# Altium integrated library AT90USB1286-AU.IntLib: 1 symbol
Pins are listed as number, name and electrical type; pins without a type are passive.

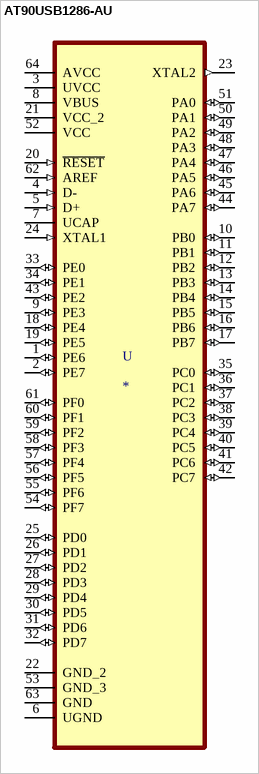
[diagram p0: symbol AT90USB1286-AU]

## AT90USB1286-AU
designator U
AVR AVRÂ® 90USB Microcontroller IC 8-Bit 16MHz 128KB _128K x 8_ FLASH 64-TQFP _14x14_; MF: Microchip; MP: AT90USB1286-AU; Value: *; Package: TQFP-64 Microchip; Price: None; Availability: Unavailable; SnapEDA_Link: https://www.snapeda.com/parts/AT90USB1286-AU/Microchip/view-part/598497/?ref=snap
footprint QFP80P1600X1600X120-64N
pins: 1 PE6 (io), 2 PE7 (io), 3 UVCC (power), 4 D- (in), 5 D+ (in), 6 UGND, 7 UCAP, 8 VBUS (power), 9 PE3 (io), 10 PB0 (io), 11 PB1 (io), 12 PB2 (io), 13 PB3 (io), 14 PB4 (io), 15 PB5 (io), 16 PB6 (io), 17 PB7 (io), 18 PE4 (io), 19 PE5 (io), 20 ~{RESET} (in), 21 VCC_2 (power), 22 GND_2, 23 XTAL2 (out), 24 XTAL1 (in), 25 PD0 (io), 26 PD1 (io), 27 PD2 (io), 28 PD3 (io), 29 PD4 (io), 30 PD5 (io), 31 PD6 (io), 32 PD7 (io), 33 PE0 (io), 34 PE1 (io), 35 PC0 (io), 36 PC1 (io), 37 PC2 (io), 38 PC3 (io), 39 PC4 (io), 40 PC5 (io), 41 PC6 (io), 42 PC7 (io), 43 PE2 (io), 44 PA7 (io), 45 PA6 (io), 46 PA5 (io), 47 PA4 (io), 48 PA3 (io), 49 PA2 (io), 50 PA1 (io), 51 PA0 (io), 52 VCC (power), 53 GND_3, 54 PF7 (io), 55 PF6 (io), 56 PF5 (io), 57 PF4 (io), 58 PF3 (io), 59 PF2 (io), 60 PF1 (io), 61 PF0 (io), 62 AREF (in), 63 GND, 64 AVCC (power)